# Altium schematic symbol library EPS.SchLib: 9 symbols
Pins are listed as number, name and electrical type; pins without a type are passive.

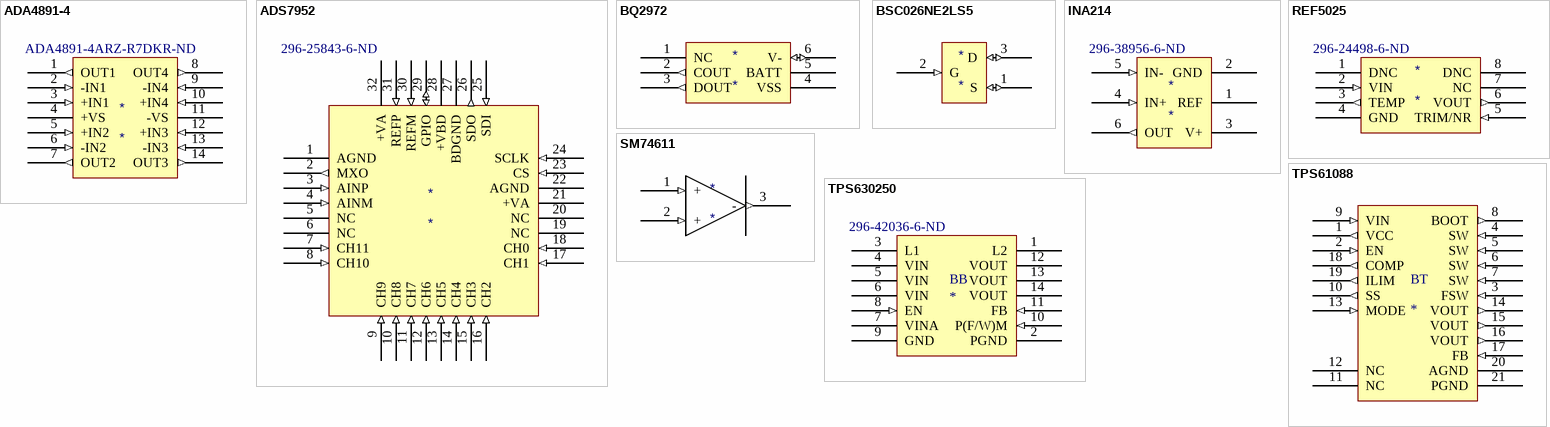
[diagram p0: symbols ADA4891-4 to TPS630250]

## ADA4891-4
designator *  Supplier Part Number 1: ADA4891-4ARZ-R7DKR-ND
Op-amps; Supplier 1: Digi-Key
footprint R_14
pins: 1 OUT1 (out), 2 -IN1 (in), 3 +IN1 (in), 4 +VS (power), 5 +IN2 (in), 6 -IN2 (in), 7 OUT2 (out), 8 OUT4 (out), 9 -IN4 (in), 10 +IN4 (in), 11 -VS (power), 12 +IN3 (in), 13 -IN3 (in), 14 OUT3 (out)

## ADS7952
designator *  Supplier Part Number 1: 296-25843-6-ND
ADC; Supplier 1: Digi-Key
footprint QFN50P500X500X100-32N
pins: 1 AGND (power), 2 MXO (out), 3 AINP (in), 4 AINM (in), 5 NC, 6 NC, 7 CH11 (in), 8 CH10 (in), 9 CH9 (in), 10 CH8 (in), 11 CH7 (in), 12 CH6 (in), 13 CH5 (in), 14 CH4 (in), 15 CH3 (in), 16 CH2 (in), 17 CH1 (in), 18 CH0 (in), 19 NC, 20 NC, 21 +VA (power), 22 AGND (power), 23 CS (in), 24 SCLK (in), 25 SDI (in), 26 SDO (out), 27 BDGND (power), 28 +VBD (power), 29 GPIO (io), 30 REFM (in), 31 REFP (in), 32 +VA (power)

## BQ2972
designator *
Battery protection
footprint SON50P150X150X80-6N
pins: 1 NC, 2 COUT (out), 3 DOUT (out), 4 VSS (power), 5 BATT (power), 6 V- (io)

## BSC026NE2LS5
designator *
MOSFET
footprint INF-PG-TDSON-8-1_V (TDSON, 8-Leads, Body 6.15x5.15mm, Pitch 1.27mm)
pins: 1 S (io), 2 G (in), 3 D (io)

## INA214
designator *  Supplier Part Number 1: 296-38956-6-ND
Current monitor; Supplier 1: Digi-Key
footprint SOT65P210X110-6N
pins: 1 REF, 2 GND (power), 3 V+ (power), 4 IN+ (in), 5 IN- (in), 6 OUT (out)

## REF5025
designator *  Supplier Part Number 1: 296-24498-6-ND
Voltage Reference; Supplier 1: Digi-Key
footprint SOIC127P500X600-8N
footprint DGK8-M
pins: 1 DNC, 2 VIN (in), 3 TEMP (out), 4 GND (power), 5 TRIM/NR (in), 6 VOUT (out), 7 NC, 8 DNC

## SM74611
designator *
PV Diode
footprint TO254P1435X464-3N
pins: 1 + (in), 2 + (in), 3 - (out)

## TPS61088
designator BT
Boost converter
footprint QFN50P450X350X100-21N
pins: 1 VCC (out) "Output of the internal regulator. A ceramic capacitor of more than 1.0 µF is required between this pin and ground.", 2 EN (in), 3 FSW (in), 4 SW (in), 5 SW (in), 6 SW (in), 7 SW (in), 8 BOOT (out), 9 VIN (in), 10 SS (out), 11 NC, 12 NC, 13 MODE (in), 14 VOUT (out), 15 VOUT (out), 16 VOUT (out), 17 FB (in), 18 COMP (out), 19 ILIM (out), 20 AGND (power), 21 PGND (power)

## TPS630250
designator BB  Supplier Part Number 1: 296-42036-6-ND
Buck-boost converter; Supplier 1: Digi-Key
footprint RNC0014A
pins: 1 L2 (power), 2 PGND (power), 3 L1 (power), 4 VIN (power), 5 VIN (power), 6 VIN (power), 7 VINA (power), 8 EN (in), 9 GND (power), 10 P(F/W)M (in), 11 FB (in), 12 VOUT, 13 VOUT, 14 VOUT